# Altium schematic symbol library IC_74LVC1G17.SchLib: 1 symbol
Pins are listed as number, name and electrical type; pins without a type are passive.

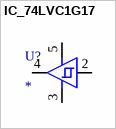
[diagram p0: symbol IC_74LVC1G17]

## IC_74LVC1G17
designator U?
pins: 2 A, 3 A, 4 A, 5 A